# Altium schematic symbol library Schematic Components.SchLib: 5 symbols
Pins are listed as number, name and electrical type; pins without a type are passive.

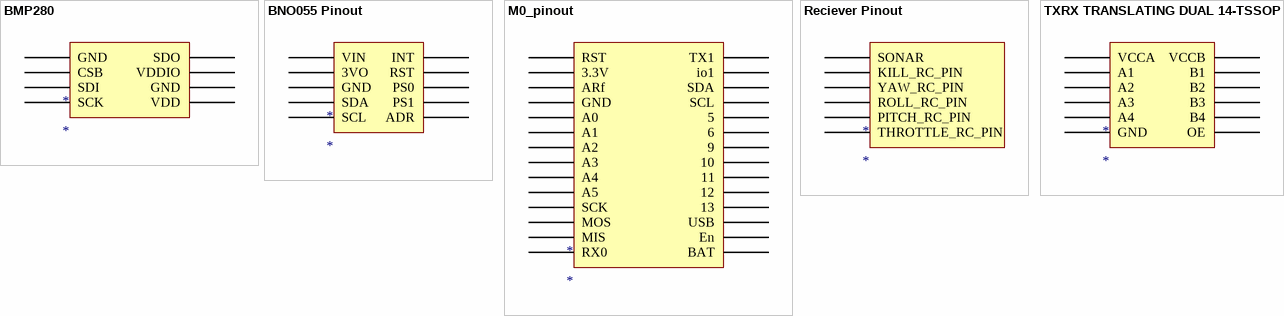
[diagram p0: symbols BMP280 to TXRX TRANSLATING DUAL 14-TSSOP]

## BMP280
designator *
footprint BMP280
pins: CSB, GND, GND, SCK, SDI, SDO, VDD, VDDIO

## BNO055 Pinout
designator *
footprint BNO055
pins: 3VO, ADR, GND, INT, PS0, PS1, RST, SCL, SDA, VIN

## M0_pinout
designator *
footprint M0
pins: 3.3V, 5, 6, 9, 10, 11, 12, 13, A0, A1, A2, A3, A4, A5, ARf, BAT, En, GND, io1, MIS, MOS, RST, RX0, SCK, SCL, SDA, TX1, USB

## Reciever Pinout
designator *
footprint Reciever; pin to pad KILL_RC_PIN>KILL PITCH_RC_PIN>PITCH ROLL_RC_PIN>ROLL THROTTLE_RC_PIN>THR YAW_RC_PIN>YAW
pins: KILL_RC_PIN, PITCH_RC_PIN, ROLL_RC_PIN, SONAR, THROTTLE_RC_PIN, YAW_RC_PIN

## TXRX TRANSLATING DUAL 14-TSSOP
designator *
footprint TXRX TRANSLATING DUAL 14-TSSOP
pins: A1, A2, A3, A4, B1, B2, B3, B4, GND, OE, VCCA, VCCB